# Altium footprint library 2059570571.PcbLib: 1 footprints
Each footprint in its own frame and in the unit in brackets; x right, y up, seen from the top. Pads: shape width x height; smd on the part's side, far side on the other; paste and mask are expansions set on the pad; w line width, h text height; cw(c..) or ccw(c..) is an arc to the next point about the centre after c.
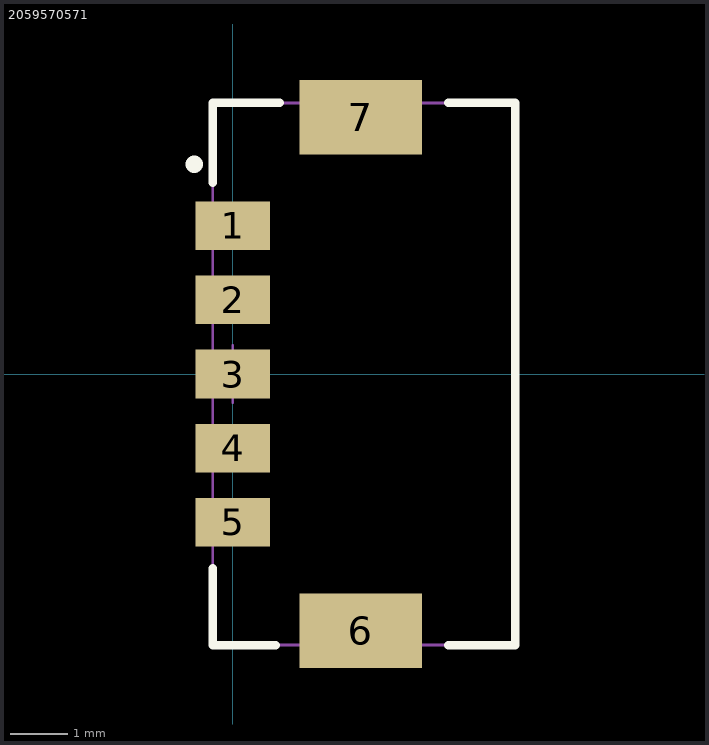
[diagram p0: the footprint, top view; thin cyan lines are the x and y axes]

## 2059570571 [mm]
pads (7):
  rect 1.3x0.85 smd mask+0.051: 1(0,2.6) 2(0,1.3) 3(0,0) 4(0,-1.3) 5(0,-2.6)
  rect 2.15x1.3 smd mask+0.051: 6(2.245,-4.5) 7(2.245,4.5)
Top Overlay:
  circle w0.254: c-0.675,3.675 r0.025
  lines w0.05: -0.35,4.75 -0.348,4.75
  lines w0.15: -0.35,-3.4 -0.35,-3.85 -0.35,-4.75 0.75,-4.75 ; -0.35,3.35 -0.35,4.75 ; -0.348,4.75 0.825,4.75 ; 3.775,-4.75 4.95,-4.75 4.95,4.75 3.775,4.75
Mechanical 13:
  lines w0.05: -0.35,-4.75 4.95,-4.75 4.95,4.75 -0.35,4.75 -0.35,-4.75
Mechanical 15:
  lines w0.05: -0.5,0 0,0 ; 0,0 0,-0.5 0,0 ; 0,0 0.5,0 0,0 ; 0,0 0,0.5 0,0
3D body "2059570571.stp": height 4.43, standoff -0.22, extent -0.355,-4.75 4.945,4.75